# EAGLE library part LOGIC,AND-OR-INVERT,DUAL (library QuantumOptics)
Classic dual AND-OR-INVERT mux, such as CD4085, http://focus.ti.com/lit/ds/symlink/cd4085b.pdf
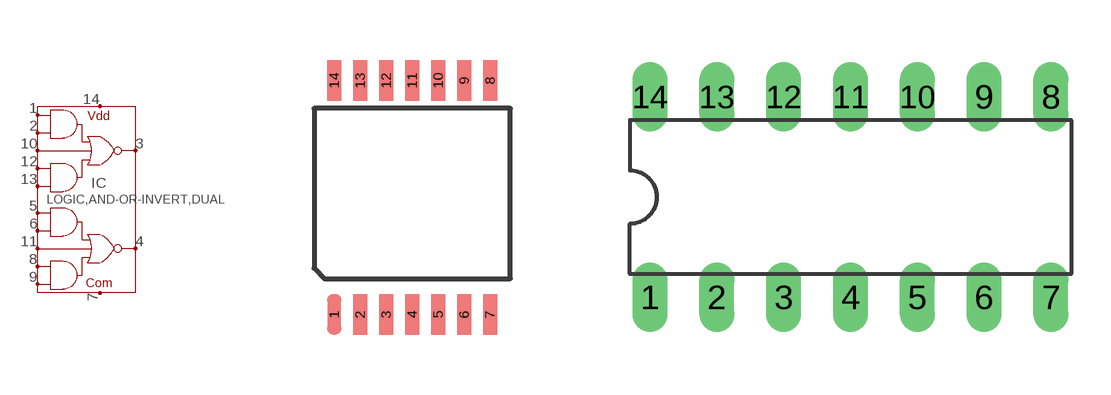
[diagram p125: symbol with the pads of TSSOP-14; footprints TSSOP-14, DIL14]

Designator prefix IC

## LOGIC,AND-OR-INVERT,DUAL-TSSOP14  [TSSOP-14]
1  A1-1  in
2  A1-2  in
3  QA  out
4  QB  out
5  B1-1  in
6  B1-2  in
7  COM  pas
8  B2-1  in
9  B2-2  in
10  A-INH  in
11  B-INH  in
12  A2-1  in
13  A2-2  in
14  VDD  pas

## LOGIC,AND-OR-INVERT,DUAL-DIP14  [DIL14]
Pads as for TSSOP-14

## Footprint TSSOP-14 (pad centres in mm)
TSSOP-14, pins 0.65mm c-c spacing, nominal 6.4mm rows.
smd 0.356 x 1.016: 1 0,-2.925; 2 0.65,-2.925; 3 1.3,-2.925; 4 1.95,-2.925; 5 2.6,-2.925; 6 3.25,-2.925; 7 3.9,-2.925; 8 3.9,2.925; 9 3.25,2.925; 10 2.6,2.925; 11 1.95,2.925; 12 1.3,2.925; 13 0.65,2.925; 14 0,2.925

## Footprint DIL14 (pad centres in mm)
Dual In Line Package
drill 0.813 long: 1 -7.62,-3.81; 2 -5.08,-3.81; 3 -2.54,-3.81; 4 0,-3.81; 5 2.54,-3.81; 6 5.08,-3.81; 7 7.62,-3.81; 8 7.62,3.81; 9 5.08,3.81; 10 2.54,3.81; 11 0,3.81; 12 -2.54,3.81; 13 -5.08,3.81; 14 -7.62,3.81